# Altium footprint library 晶振.PcbLib: 15 footprints
Each footprint in its own frame and in the unit in brackets; x right, y up, seen from the top. Pads: shape width x height; smd on the part's side, far side on the other; paste and mask are expansions set on the pad; w line width, h text height; cw(c..) or ccw(c..) is an arc to the next point about the centre after c.
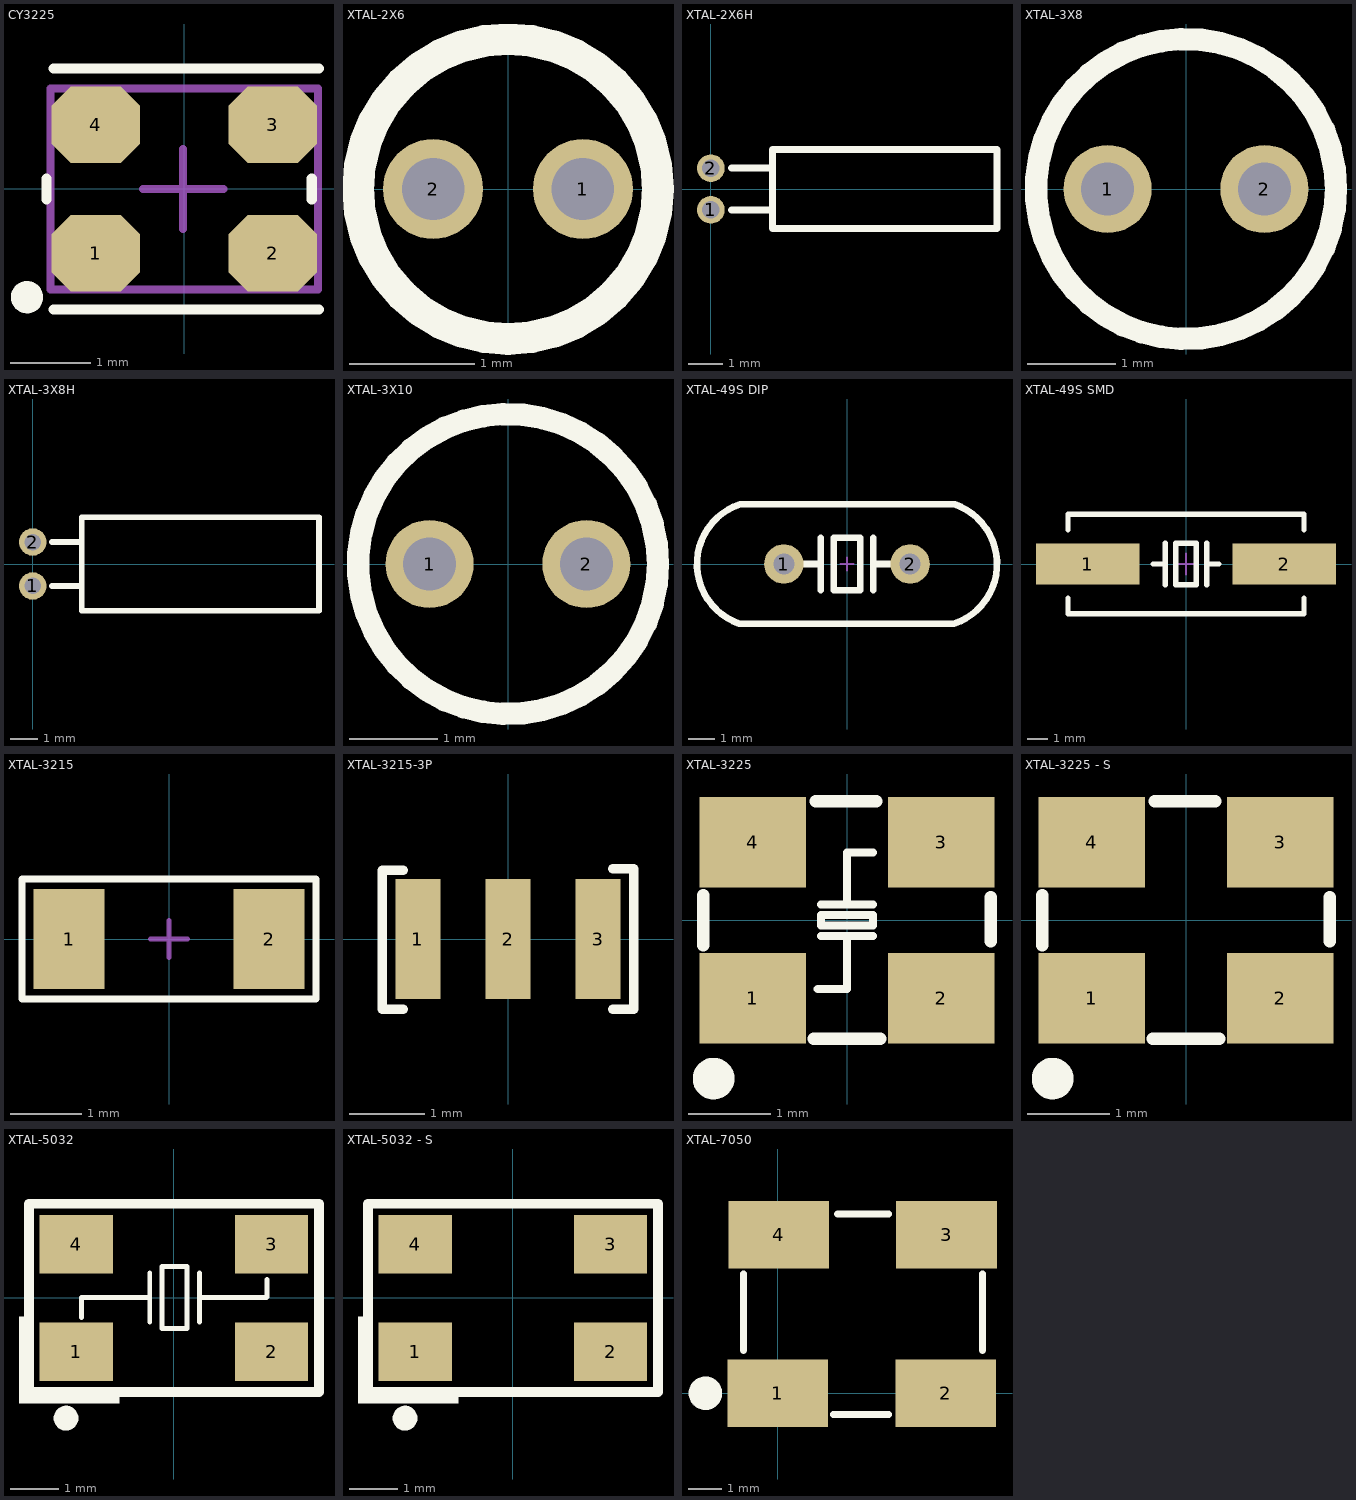
[diagram p0: the footprints below, top view; thin cyan lines are the x and y axes]

## CY3225 [mm]
pads (4):
  oct 1.1x0.95 smd: 1(-1.1,-0.8) 2(1.1,-0.8) 3(1.1,0.8) 4(-1.1,0.8)
Top Overlay:
  circle w0.2: c-1.956,-1.346 r0.1
  lines w0.127: -1.714,-0.127 -1.714,0.127 ; -1.626,-1.499 1.676,-1.499 ; -1.626,1.499 1.676,1.499 ; 1.587,-0.127 1.587,0.127
Mechanical 13:
  lines w0.1: -1.663,-1.25 1.664,-1.25 1.664,1.25 -1.663,1.25 -1.663,-1.25
Mechanical 15:
  lines w0.1: -0.513,0 0.487,0 ; -0.013,-0.5 -0.013,0.5
3D body "User Library-XTAL-SMT-3225.step": height 0.81, standoff 0, extent -1.6,-1.25 1.6,1.25

## XTAL-2X6 [mm]
pads (2):
  round 0.8 hole 0.5: 1(0.6,0) 2(-0.6,0)
Top Overlay:
  circle w0.254: c0,0 r1.2
3D body "2x6.STEP": height 6.4, standoff -4.9, extent -1.05,-1.05 1.05,1.05

## XTAL-2X6H [mm]
pads (2):
  round 0.8 hole 0.5: 1(0,-0.6) 2(0,0.6)
Top Overlay:
  lines w0.203: 0.6,-0.6 1.778,-0.6 ; 0.6,0.6 1.778,0.6 ; 1.778,-1.143 1.778,1.143 8.255,1.143 8.255,-1.143 1.778,-1.143
3D body "2x6H.STEP": height 1.9, standoff -2.15, extent -0.18,-1.075 8.18,1.025

## XTAL-3X8 [mm]
pads (2):
  round 1 hole 0.6: 1(-0.889,0) 2(0.889,0)
Top Overlay:
  circle w0.254: c0,0 r1.7
3D body "3x8.STEP": height 8.4, standoff -4.9, extent -1.5,-1.5 1.5,1.5

## XTAL-3X8H [mm]
pads (2):
  round 1 hole 0.6: 1(0,-0.8) 2(0,0.8)
Top Overlay:
  lines w0.203: 0.7,-0.8 1.778,-0.8 ; 0.7,0.8 1.778,0.8 ; 1.778,-1.7 1.778,1.7 10.414,1.7 10.414,-1.7 1.778,-1.7
3D body "3x6h.STEP": height 2.9, standoff -3.1, extent -0.18,-1.5 10.18,1.5

## XTAL-3X10 [mm]
pads (2):
  round 1 hole 0.6: 1(-0.889,0) 2(0.889,0)
Top Overlay:
  circle w0.254: c0,0 r1.7
3D body "3x10.STEP": height 10.2, standoff -4.9, extent -1.5,-1.5 1.5,1.5

## XTAL-49S DIP [mm]
pads (2):
  round 1.5 hole 0.8: 1(-2.4,0) 2(2.4,0)
Top Overlay:
  lines w0.254: -4.09,-2.275 4.059,-2.275 ccw(c3.298,0.003) 4.09,2.271 ; -4.09,-2.271 cw(c-3.298,-0.003) -4.059,2.275 4.09,2.275 ; -1.6,0 -1,0 ; -1,-1 -1,1 ; 1,-1 1,1 ; 1,0 1.6,0 ; -0.5,-1 0.5,-1 0.5,1 -0.5,1 -0.5,-1
Mechanical 15:
  lines w0.076: -0.254,0 0.254,0 ; 0,-0.254 0,0.254
3D body "SW3dPS-HP49US.STEP": height 3.5, standoff -4, extent -5.675,-2.35 5.675,2.3

## XTAL-49S SMD [mm]
pads (2):
  rect 5x2 smd: 1(-4.75,0) 2(4.75,0)
Top Overlay:
  lines w0.254: -5.7,-1.65 -5.7,-2.4 5.7,-2.4 5.7,-1.65 ; -5.7,1.65 -5.7,2.4 5.7,2.4 5.7,1.65 ; -1.6,0 -1,0 ; -1,-1 -1,1 ; 1,-1 1,1 ; 1,0 1.6,0 ; -0.5,-1 0.5,-1 0.5,1 -0.5,1 -0.5,-1
Mechanical 15:
  lines w0.076: -0.508,0 0.508,0 ; 0,-0.508 0,0.508
3D body "User Library-hc49_cystal.STEP": height 4, standoff 0, extent -6.7,-2.462 6.7,2.438

## XTAL-3215 [mm]
pads (2):
  rect 1x1.4 smd: 1(-1.4,0) 2(1.4,0)
Top Overlay:
  lines w0.1: -2.057,-0.838 2.057,-0.838 2.057,0.838 -2.057,0.838 -2.057,-0.838
Mechanical 15:
  lines w0.076: -0.254,0 0.254,0 ; 0,-0.254 0,0.254
3D body "User Library-X3215.STEP": height 0.81, standoff 0, extent -1.6,-0.75 1.6,0.75

## XTAL-3215-3P [mm]
pads (3):
  rect 0.6x1.6 smd: 1(-1.2,0) 2(0,0) 3(1.2,0)
Top Overlay:
  lines w0.127: -1.397,-0.94 -1.676,-0.94 -1.676,0.914 -1.397,0.914 ; 1.397,-0.94 1.676,-0.94 1.676,0.94 1.397,0.94
3D body "User Library-NDK_NX3215SA.STEP": height 0.9, standoff 0.1, extent -1.6,-0.737 1.6,0.763

## XTAL-3225 [mm]
pads (4):
  rect 1.3x1.1 smd: 1(-1.15,-0.95) 2(1.15,-0.95) 3(1.15,0.95) 4(-1.15,0.95)
Top Overlay:
  circle w0.254: c-1.626,-1.93 r0.127
  lines w0.1: -0.317,-0.19 0.318,-0.19 ; -0.317,0.191 0.318,0.191 ; 0,-0.838 0,-0.19 ; 0,0.191 0,0.826 0.318,0.826 ; -0.317,-0.063 0.318,-0.063 0.318,0.064 -0.317,0.064 -0.317,-0.063
  lines w0.102: -0.356,-0.838 0,-0.838
  lines w0.152: -1.753,-0.305 -1.753,0.305 ; -0.406,-1.448 0.406,-1.448 ; -0.381,1.448 0.356,1.448 ; 1.753,-0.254 1.753,0.279
3D body "XTAL-3225.STEP": height 0.8, standoff 0, extent -1.6,-1.245 1.6,1.255

## XTAL-3225 - S [mm] "3225有源晶振"
pads (4):
  rect 1.3x1.1 smd: 1(-1.15,-0.95) 2(1.15,-0.95) 3(1.15,0.95) 4(-1.15,0.95)
Top Overlay:
  circle w0.254: c-1.626,-1.93 r0.127
  lines w0.152: -1.753,-0.305 -1.753,0.305 ; -0.406,-1.448 0.406,-1.448 ; -0.381,1.448 0.356,1.448 ; 1.753,-0.254 1.753,0.279
3D body "XTAL-3225.STEP": height 0.8, standoff 0, extent -1.6,-1.245 1.6,1.255

## XTAL-5032 [mm]
pads (4):
  rect 1.5x1.2 smd: 1(-2,-1.1) 2(2,-1.1) 3(2,1.1) 4(-2,1.1)
Top Overlay:
  circle w0.254: c-2.21,-2.464 r0.127
  rectangle: -3.124,-2.159 -1.118,-1.905
  rectangle: -3.175,-2.159 -2.946,-0.381
  lines w0.1: -1.897,-0.406 -1.897,0.008 -0.496,0.008 ; -0.496,-0.5 -0.496,0.516 ; 0.52,-0.5 0.52,0.516 ; 0.52,0.008 1.902,0.008 1.905,0.016 1.905,0.381 ; -0.242,-0.627 -0.242,0.643 0.266,0.643 0.266,0.326 0.266,-0.309 0.266,-0.627 -0.242,-0.627
  lines w0.2: -2.972,-1.93 2.972,-1.93 2.972,1.93 -2.972,1.93 -2.972,-1.93
3D body "User Library-CRYSTALSMD5X32.STEP": height 1, standoff 0, extent -2.5,-1.6 2.5,1.6

## XTAL-5032 - S [mm] "5032 有源晶振"
pads (4):
  rect 1.5x1.2 smd: 1(-2,-1.1) 2(2,-1.1) 3(2,1.1) 4(-2,1.1)
Top Overlay:
  circle w0.254: c-2.21,-2.464 r0.127
  rectangle: -3.175,-2.159 -2.946,-0.381
  rectangle: -3.124,-2.159 -1.118,-1.905
  lines w0.2: -2.972,-1.93 -2.972,1.93 2.972,1.93 2.972,-1.93 -2.972,-1.93
3D body "User Library-CRYSTALSMD5X32.STEP": height 1, standoff 0, extent -2.5,-1.6 2.5,1.6

## XTAL-7050 [mm] "7mm*5mm"
height 1
pads (4):
  rect 3x2 smd: 1(0,0) 2(5,0) 3(5.025,4.716) 4(0.025,4.716)
Top Overlay:
  circle w0.5: c-2.155,0 r0.25
  lines w0.203: -1.016,1.27 -1.016,3.556 ; 1.651,-0.635 3.302,-0.635 ; 1.778,5.334 3.302,5.334 ; 6.096,1.27 6.096,3.556